# EAGLE library part 61001611921 (library Wuerth_Elektronik_eiCan_Pin_&_Socked_Headers_v1.3)
WR-PHD 2.54mm SMT Socket Header, 16 Pins
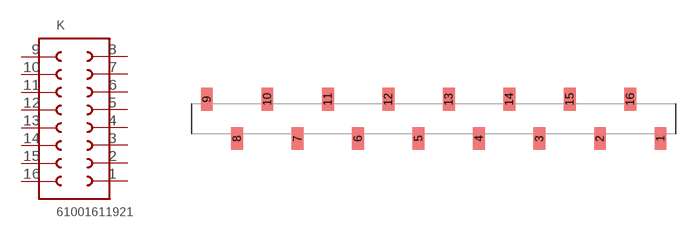
[diagram p237: symbol with the pads of 61001611921; footprint 61001611921]

Designator prefix K

## 61001611921  [61001611921]
1  9  pas
2  10  pas
3  11  pas
4  12  pas
5  13  pas
6  14  pas
7  15  pas
8  16  pas
9  1  pas
10  2  pas
11  3  pas
12  4  pas
13  5  pas
14  6  pas
15  7  pas
16  8  pas

## Footprint 61001611921 (pad centres in mm)
WR-PHD 2.54mm SMT Socket Header, 16 Pins
smd 1 x 1.91: 1 19.05,-1.645; 2 13.97,-1.645; 3 8.89,-1.645; 4 3.81,-1.645; 5 -1.27,-1.645; 6 -6.35,-1.645; 7 -11.43,-1.645; 8 -16.51,-1.645; 9 -19.05,1.645; 10 -13.97,1.645; 11 -8.89,1.645; 12 -3.81,1.645; 13 1.27,1.645; 14 6.35,1.645; 15 11.43,1.645; 16 16.51,1.645